# Altium footprint library 电感封装库.PcbLib: 24 footprints (part 2 of 2)
Each footprint in its own frame and in the unit in brackets; x right, y up, seen from the top. Pads: shape width x height; smd on the part's side, far side on the other; paste and mask are expansions set on the pad; w line width, h text height; cw(c..) or ccw(c..) is an arc to the next point about the centre after c.
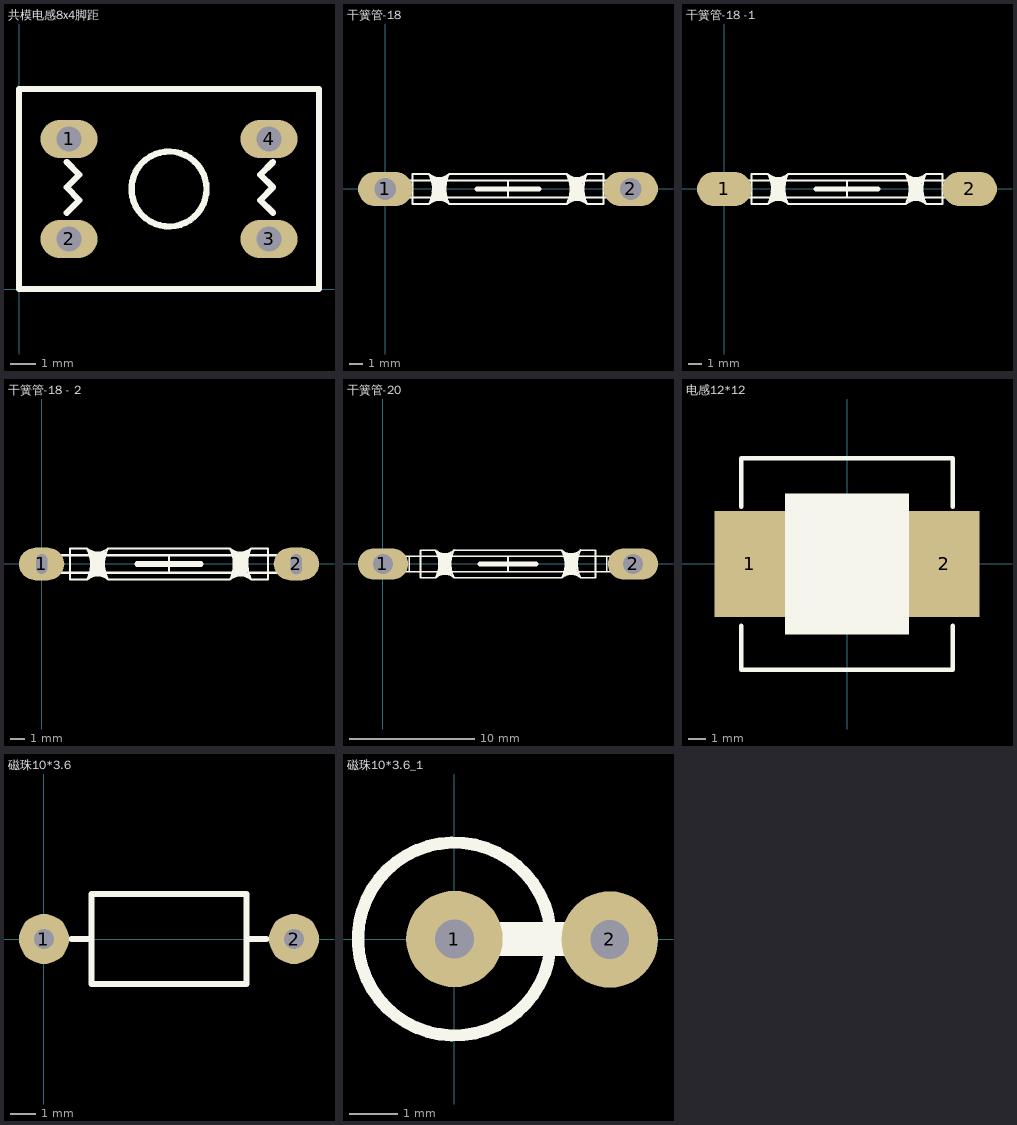
[diagram p1: the footprints below, top view; thin cyan lines are the x and y axes]

## 共模电感8x4脚距 [mil] "12x7.5"
height 551.18
pads (4):
  oval 90x60 hole 40: 1(78.74,236.22) 2(78.74,78.74) 3(393.7,78.74) 4(393.7,236.22)
Top Overlay:
  circle w10: c236.22,157.48 r59.06
  lines w10: 75,120 95,140 75,160 95,180 75,200 ; 400,120 380,140 400,160 380,180 400,200 ; 0,0 472.44,0 472.44,314.96 0,314.96 0,0

## 干簧管-18 [mm]
pads (2):
  oval 4x2.5 hole 1.6: 1(0,0) 2(18,0)
Top Overlay:
  lines w0.15: 0.8,-0.62 0.8,0.61 ; 1.1,-0.62 1.1,0.62 ; 1.99,0.62 3.4,0.62 ; 3.2,-1.1 2,-1.1 2,-0.62 ; 3.208,-1.102 cw(c3.96,-1.93) 4.71,-1.1 13.3,-1.1 ; 3.208,1.098 cw(c1.19,-0.01) 3.215,-1.105 ; 3.41,-0.62 2,-0.62 ; 4.49,-0.62 13.5,-0.62 ; 4.49,0.62 13.49,0.62 ; 4.685,1.105 ccw(c6.71,0.01) 4.692,-1.098 ; 4.702,1.102 cw(c3.95,1.93) 3.2,1.1 2,1.1 2,0.62 ; 4.707,1.098 13.298,1.098 ccw(c14.048,1.928) 14.8,1.1 16,1.1 ; 9,-0.62 9,0.62 ; 13.298,1.098 cw(c11.28,-0.01) 13.305,-1.105 cw(c14.058,-1.932) 14.808,-1.102 15.998,-1.102 15.998,1.098 ; 14.61,0.62 16,0.62 ; 14.62,-0.62 16.01,-0.62 ; 14.805,1.105 ccw(c16.83,0.01) 14.812,-1.098 ; 16.9,-0.62 16.9,0.61 ; 17.2,-0.62 17.2,0.61 ; 2,-0.62 0,-0.62 -0.5,-0.62 -0.5,0.62 0,0.62 2,0.62 ; 2,-0.62 2,0 2,0.62 ; 16,0.62 18,0.62 18.5,0.62 18.5,-0.62 18,-0.62 16,-0.62 16,0 16,0.62
  lines w0.254: 3.42,-0.74 4.44,-0.74 ; 3.42,0.74 4.43,0.74 ; 3.48,0.53 4.37,0.53 ; 3.49,-0.56 4.37,-0.56 ; 3.51,0.31 4.37,0.31 ; 3.52,-0.36 4.32,-0.36 ; 3.53,-0.15 4.28,-0.15 ; 3.54,0.09 4.3,0.09 ; 13.5,0.75 14.57,0.75 ; 13.52,-0.76 14.56,-0.76 ; 13.53,-0.72 14.46,-0.72 ; 13.57,0.52 14.49,0.52 ; 13.58,-0.55 14.43,-0.55 ; 13.62,-0.38 14.4,-0.38 ; 13.63,0.29 14.42,0.29 ; 13.64,-0.17 14.44,-0.17 ; 13.65,0.05 14.42,0.05
  lines w0.4: 6.75,0 11.25,0

## 干簧管-18 -1 [mm]
pads (2):
  oval 4x2.5 smd: 1(0,0) 2(18,0)
Top Overlay:
  lines w0.15: 0.8,-0.62 0.8,0.61 ; 1.1,-0.62 1.1,0.62 ; 1.99,0.62 3.4,0.62 ; 3.2,-1.1 2,-1.1 2,-0.62 ; 3.208,-1.102 cw(c3.96,-1.93) 4.71,-1.1 13.3,-1.1 ; 3.208,1.098 cw(c1.19,-0.01) 3.215,-1.105 ; 3.41,-0.62 2,-0.62 ; 4.49,-0.62 13.5,-0.62 ; 4.49,0.62 13.49,0.62 ; 4.685,1.105 ccw(c6.71,0.01) 4.692,-1.098 ; 4.702,1.102 cw(c3.95,1.93) 3.2,1.1 2,1.1 2,0.62 ; 4.707,1.098 13.298,1.098 ccw(c14.048,1.928) 14.8,1.1 16,1.1 ; 9,-0.62 9,0.62 ; 13.298,1.098 cw(c11.28,-0.01) 13.305,-1.105 cw(c14.058,-1.932) 14.808,-1.102 15.998,-1.102 15.998,1.098 ; 14.61,0.62 16,0.62 ; 14.62,-0.62 16.01,-0.62 ; 14.805,1.105 ccw(c16.83,0.01) 14.812,-1.098 ; 16.9,-0.62 16.9,0.61 ; 17.2,-0.62 17.2,0.61 ; 2,-0.62 2,0 2,0.62 ; 2,-0.62 0,-0.62 -0.5,-0.62 -0.5,0.62 0,0.62 2,0.62 ; 16,0.62 16,0 16,-0.62 18,-0.62 18.5,-0.62 18.5,0.62 18,0.62 16,0.62
  lines w0.254: 3.42,-0.74 4.44,-0.74 ; 3.42,0.74 4.43,0.74 ; 3.48,0.53 4.37,0.53 ; 3.49,-0.56 4.37,-0.56 ; 3.51,0.31 4.37,0.31 ; 3.52,-0.36 4.32,-0.36 ; 3.53,-0.15 4.28,-0.15 ; 3.54,0.09 4.3,0.09 ; 13.5,0.75 14.57,0.75 ; 13.52,-0.76 14.56,-0.76 ; 13.53,-0.72 14.46,-0.72 ; 13.57,0.52 14.49,0.52 ; 13.58,-0.55 14.43,-0.55 ; 13.62,-0.38 14.4,-0.38 ; 13.63,0.29 14.42,0.29 ; 13.64,-0.17 14.44,-0.17 ; 13.65,0.05 14.42,0.05
  lines w0.4: 6.75,0 11.25,0

## 干簧管-18 - 2 [mm]
pads (14):
  oval 3.2x2.3 hole 0.8: 1(0,0) 2(18,0)
  round 0.8 hole 0.8: ""(0,-0.3) ""(0,-0.3) ""(0,-0.2) ""(0,0.05) ""(0,0.25) ""(0,0.3) ""(18,-0.35) ""(18,-0.3) ""(18,-0.2) ""(18,0.05) ""(18,0.25) ""(18,0.3)
Top Overlay:
  lines w0.15: 0.8,-0.62 0.8,0.61 ; 1.1,-0.62 1.1,0.62 ; 1.99,0.62 3.4,0.62 ; 3.2,-1.1 2,-1.1 2,-0.62 ; 3.208,-1.102 cw(c3.96,-1.93) 4.71,-1.1 13.3,-1.1 ; 3.208,1.098 cw(c1.19,-0.01) 3.215,-1.105 ; 3.41,-0.62 2,-0.62 ; 4.49,-0.62 13.5,-0.62 ; 4.49,0.62 13.49,0.62 ; 4.685,1.105 ccw(c6.71,0.01) 4.692,-1.098 ; 4.702,1.102 cw(c3.95,1.93) 3.2,1.1 2,1.1 2,0.62 ; 4.707,1.098 13.298,1.098 ccw(c14.048,1.928) 14.8,1.1 16,1.1 ; 9,-0.62 9,0.62 ; 13.298,1.098 cw(c11.28,-0.01) 13.305,-1.105 cw(c14.058,-1.932) 14.808,-1.102 15.998,-1.102 15.998,1.098 ; 14.61,0.62 16,0.62 ; 14.62,-0.62 16.01,-0.62 ; 14.805,1.105 ccw(c16.83,0.01) 14.812,-1.098 ; 16.9,-0.62 16.9,0.61 ; 17.2,-0.62 17.2,0.61 ; 2,-0.62 2,0 2,0.62 ; 2,-0.62 0,-0.62 -0.5,-0.62 -0.5,0.62 0,0.62 2,0.62 ; 16,0.62 16,0 16,-0.62 18,-0.62 18.5,-0.62 18.5,0.62 18,0.62 16,0.62
  lines w0.254: 3.42,-0.74 4.44,-0.74 ; 3.42,0.74 4.43,0.74 ; 3.48,0.53 4.37,0.53 ; 3.49,-0.56 4.37,-0.56 ; 3.51,0.31 4.37,0.31 ; 3.52,-0.36 4.32,-0.36 ; 3.53,-0.15 4.28,-0.15 ; 3.54,0.09 4.3,0.09 ; 13.5,0.75 14.57,0.75 ; 13.52,-0.76 14.56,-0.76 ; 13.53,-0.72 14.46,-0.72 ; 13.57,0.52 14.49,0.52 ; 13.58,-0.55 14.43,-0.55 ; 13.62,-0.38 14.4,-0.38 ; 13.63,0.29 14.42,0.29 ; 13.64,-0.17 14.44,-0.17 ; 13.65,0.05 14.42,0.05
  lines w0.4: 6.75,0 11.25,0

## 干簧管-20 [mm]
pads (2):
  oval 4x2.5 hole 1.6: 1(0,0) 2(20,0)
Top Overlay:
  lines w0.15: 1.8,-0.62 1.8,0.61 ; 2.1,-0.62 2.1,0.62 ; 2.99,0.62 4.4,0.62 ; 4.2,-1.1 3,-1.1 3,-0.62 ; 4.208,-1.102 cw(c4.96,-1.93) 5.71,-1.1 14.3,-1.1 ; 4.208,1.098 cw(c2.19,-0.01) 4.215,-1.105 ; 4.41,-0.62 3,-0.62 ; 5.49,-0.62 14.5,-0.62 ; 5.49,0.62 14.49,0.62 ; 5.685,1.105 ccw(c7.71,0.01) 5.692,-1.098 ; 5.702,1.102 cw(c4.95,1.93) 4.2,1.1 3,1.1 3,0.62 ; 5.707,1.098 14.298,1.098 ; 10,-0.62 10,0.62 ; 15.61,0.62 17,0.62 ; 15.62,-0.62 17.01,-0.62 ; 15.805,1.105 ccw(c17.83,0.01) 15.812,-1.098 ; 16.998,1.098 16.998,-1.102 15.808,-1.102 ccw(c15.058,-1.932) 14.305,-1.105 ccw(c12.28,-0.01) 14.298,1.098 ; 17,1.1 15.8,1.1 cw(c15.048,1.928) 14.298,1.098 ; 17.9,-0.62 17.9,0.61 ; 18.2,-0.62 18.2,0.61 ; 3,-0.62 1,-0.62 0.5,-0.62 0.5,0.62 1,0.62 3,0.62 ; 3,-0.62 3,0 3,0.62 ; 17,0.62 19,0.62 19.5,0.62 19.5,-0.62 19,-0.62 17,-0.62 17,0 17,0.62
  lines w0.254: 4.42,-0.74 5.44,-0.74 ; 4.42,0.74 5.43,0.74 ; 4.48,0.53 5.37,0.53 ; 4.49,-0.56 5.37,-0.56 ; 4.51,0.31 5.37,0.31 ; 4.52,-0.36 5.32,-0.36 ; 4.53,-0.15 5.28,-0.15 ; 4.54,0.09 5.3,0.09 ; 14.5,0.75 15.57,0.75 ; 14.52,-0.76 15.56,-0.76 ; 14.53,-0.72 15.46,-0.72 ; 14.57,0.52 15.49,0.52 ; 14.58,-0.55 15.43,-0.55 ; 14.62,-0.38 15.4,-0.38 ; 14.63,0.29 15.42,0.29 ; 14.64,-0.17 15.44,-0.17 ; 14.65,0.05 15.42,0.05
  lines w0.4: 7.75,0 12.25,0

## 电感12*12 [mm]
height 7
pads (2):
  rect 4x6 smd: 1(-5.5,0) 2(5.5,0)
Top Overlay:
  rectangle: -3.5,-4 3.5,4
  lines w0.254: -6,-3.5 -6,-6 6,-6 6,-3.5 ; -6,3.25 -6,6 6,6 6,3.25
3D body: height 6.1, standoff -0.05, extent -6.15,-6.15 6.15,6.15

## 磁珠10*3.6 [mm]
pads (2):
  round 2 hole 0.8: 1(0.004,0.01) 2(10.004,0.01)
Top Overlay:
  lines w0.254: 1.104,0.01 1.904,0.01 ; 8.104,0.01 8.904,0.01 ; 1.904,-1.79 1.904,1.81 8.104,1.81 8.104,-1.79 1.904,-1.79

## 磁珠10*3.6_1 [mm]
pads (2):
  round 2 hole 0.8: 1(0,0) 2(3.22,-0.01)
Top Overlay:
  circle w0.254: c0,0 r2
  lines w0.254: 3.196,0 cw(c3.196,-0.034) 3.22,-0.01
  lines w0.7: 0,0 3.196,0